# Altium integrated library SP1001-05XTG.IntLib: 1 symbol
Pins are listed as number, name and electrical type; pins without a type are passive.

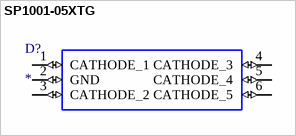
[diagram p0: symbol SP1001-05XTG]

## SP1001-05XTG
designator D?
13V Clamp 2A (8/20Âµs) Ipp Tvs Diode Surface Mount SOT-563; MP: SP1001-05XTG; MF: Littelfuse Inc.; Price: None; Availability: Good; SnapEDA_Link: https://www.snapeda.com/parts/SP1001-05XTG/Littelfuse%20Inc./view-part/575638/?ref=snap; Value: *; Check_prices: https://www.snapeda.com/parts/SP1001-05XTG/Littelfuse%20Inc./view-part/575638/?ref=eda; Package: SOT-563 Littelfuse; Purchase-URL: https://pricing.snapeda.com/search/part/SP1001-05XTG/?ref=eda
footprint SOTFL50P160X60-6N
pins: 1 CATHODE_1 (io), 2 GND (io), 3 CATHODE_2 (io), 4 CATHODE_3 (io), 5 CATHODE_4 (io), 6 CATHODE_5 (io)